# Altium integrated library ST1W008S4AR1500.IntLib: 1 symbol
Pins are listed as number, name and electrical type; pins without a type are passive.

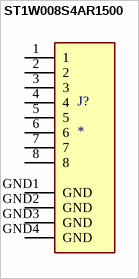
[diagram p0: symbol ST1W008S4AR1500]

## ST1W008S4AR1500
designator J?
8 Position Card Connector Secure Digital - microSDâ„¢ Surface Mount, Right Angle Gold; MF: JAE Electronics; MP: ST1W008S4AR1500; SnapEDA_Link: https://www.snapeda.com/parts/ST1W008S4AR1500/JAE%20Electronics/view-part/423641/?ref=snap; Price: None; Value: *; Availability: Warning; Purchase-URL: https://pricing.snapeda.com/search/part/ST1W008S4AR1500/?ref=eda; Package: None; Check_prices: https://www.snapeda.com/parts/ST1W008S4AR1500/JAE%20Electronics/view-part/423641/?ref=eda
footprint JAE_ST1W008S4AR1500
pins: 1, 2, 3, 4, 5, 6, 7, 8, GND1 GND (power), GND2 GND (power), GND3 GND (power), GND4 GND (power)